# EAGLE library part K-HEADER-MALE-2X4- (library elpp-tht-v1.2)
PIN HEADER 2 rows, 90 degrees
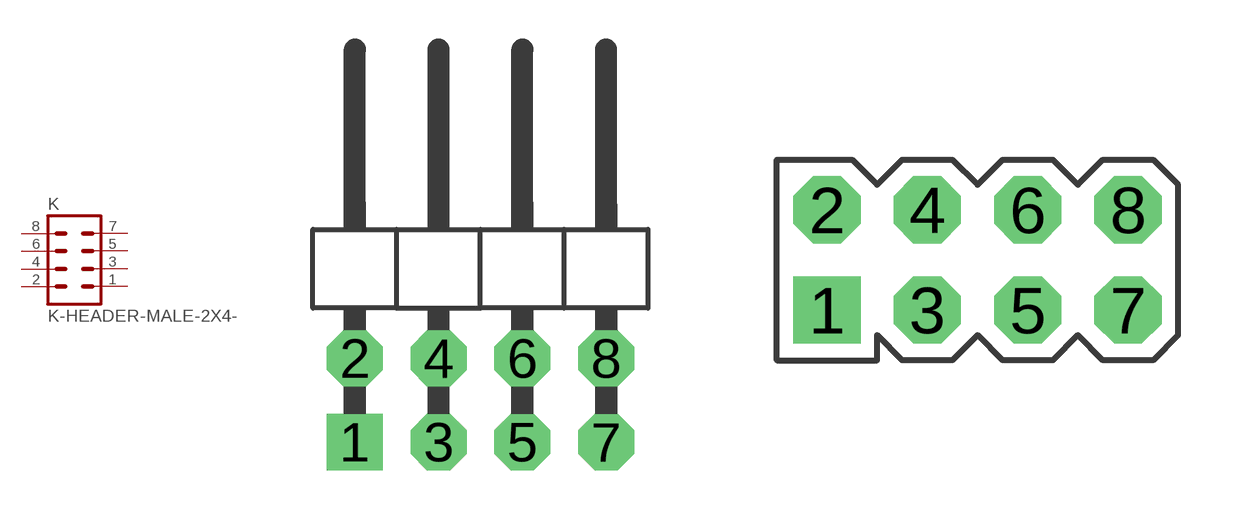
[diagram p30: symbol with the pads of ELPP-DIL-M-8-WAY-H; footprints ELPP-DIL-M-8-WAY-H, ELPP-DIL-M-8-WAY-V]

Designator prefix K

## K-HEADER-MALE-2X4-H (FARNELL: 1056023; RS: 6812666)  [ELPP-DIL-M-8-WAY-H]
1  1  pas
2  2  pas
3  3  pas
4  4  pas
5  5  pas
6  6  pas
7  7  pas
8  8  pas

## K-HEADER-MALE-2X4-V (FARNELL: 1098460; RS: 6812067)  [ELPP-DIL-M-8-WAY-V]
Pads as for ELPP-DIL-M-8-WAY-H

## Footprint ELPP-DIL-M-8-WAY-H (pad centres in mm)
PIN HEADER, 2 rows, 90 degrees
drill 1 pad 1.7 square: 1 -3.81,-1.27
drill 1 pad 1.7 octagon: 2 -3.81,1.27; 3 -1.27,-1.27; 4 -1.27,1.27; 5 1.27,-1.27; 6 1.27,1.27; 7 3.81,-1.27; 8 3.81,1.27

## Footprint ELPP-DIL-M-8-WAY-V (pad centres in mm)
drill 1 pad 1.7 square: 1 -3.81,-1.27
drill 1 pad 1.7 octagon: 2 -3.81,1.27; 3 -1.27,-1.27; 4 -1.27,1.27; 5 1.27,-1.27; 6 1.27,1.27; 7 3.81,-1.27; 8 3.81,1.27